# Altium schematic symbol library SCH_lib.SchLib: 56 symbols
Pins are listed as number, name and electrical type; pins without a type are passive.

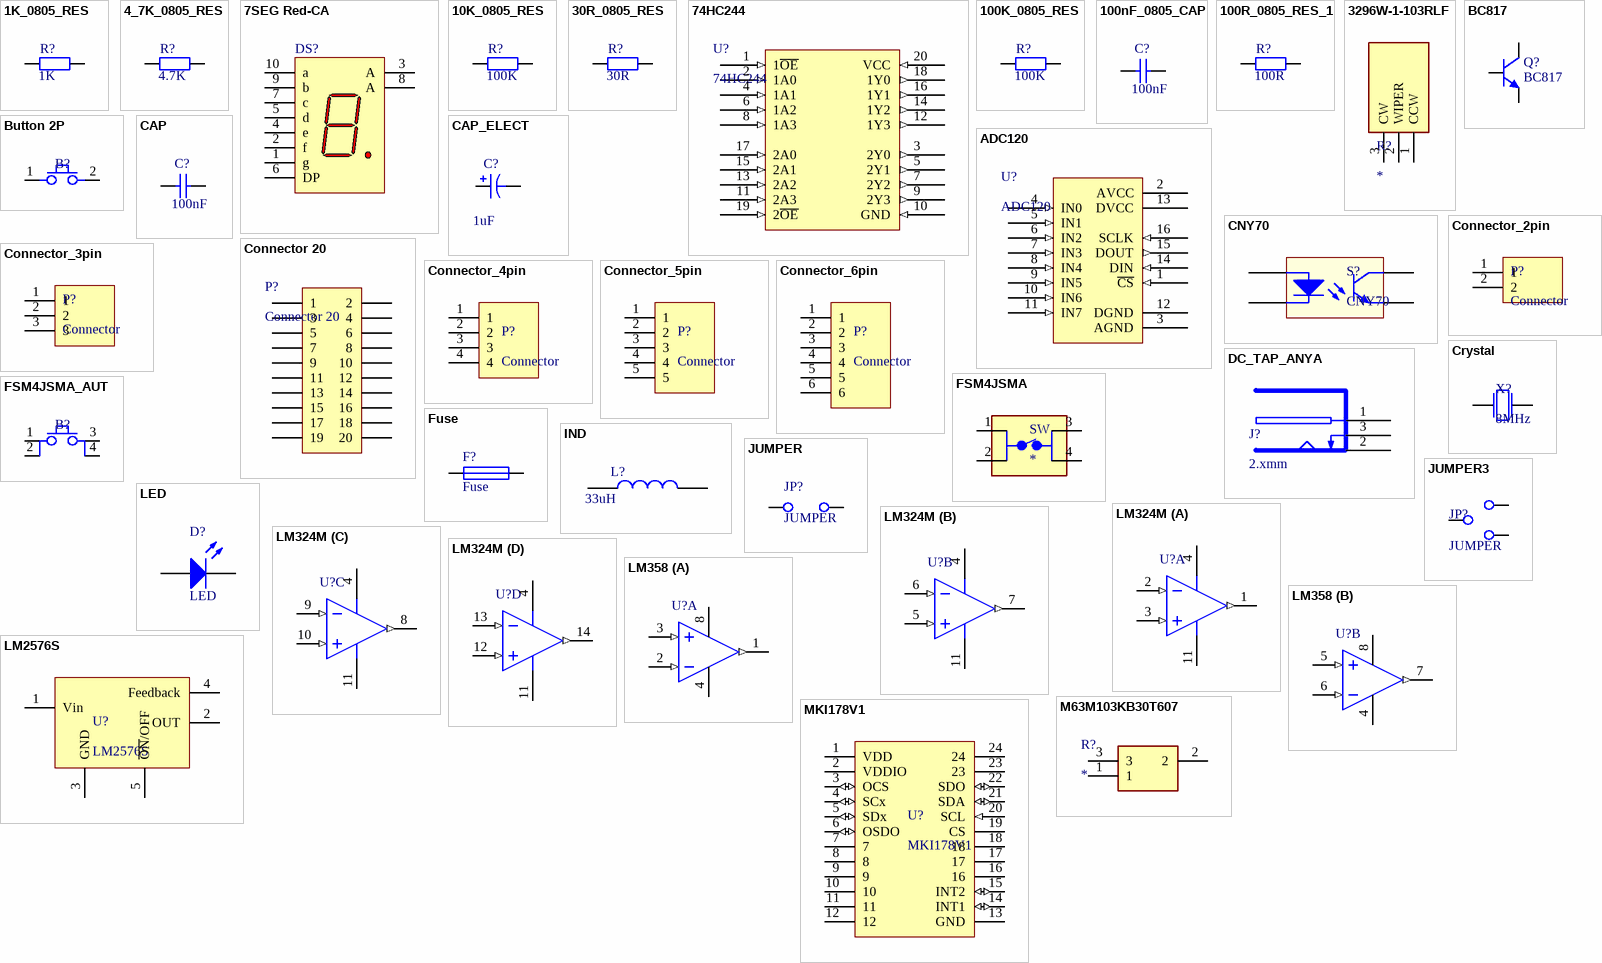
[diagram p0: symbols 1K_0805_RES to MKI178V1]

## 1K_0805_RES
designator R?, comment 1K
Resistor; Value: 1K
footprint FP_0805_RES (0805 ellenállás)
pins: 1, 2

## 4_7K_0805_RES
designator R?, comment 4.7K
Resistor; Value: 4.7K
footprint FP_0805_RES (0805 ellenállás)
pins: 1, 2

## 7SEG Red-CA
designator DS?
7-Segment Display: CA, RH DP; MinimumIntensity: 360 ucd; Note: IF = 5 mA; Colour: High Efficiency Red (HER); Note: Pins 1 and 6 are redundant Anodes.; Published: 8-Jun-2000; LatestRevisionDate: 17-Dec-2003; LatestRevisionNote: Schematic revised, PCB Footprint replaced.; DatasheetVersion: 19-Feb-2002; PackageVersion: 11-Feb-2002; PackageReference: A; Publisher: Altium Limited; PackageDescription: LED, 7-Segment Display, 7.62 mm, RHD; 10 Leads; Row Space 5.08 mm; Pitch 2.54 mm; ComponentLink1Description: Manufacturer Link; ComponentLink1URL: http://www.agilent.com/
footprint FP_7SEG (LED, 7-Segment Display, 7.62 mm, RHD; 10 Leads; Row Space 5.08 mm; Pitch 2.54 mm)
pins: 1 g "Cathode", 2 f "Cathode", 3 A "Anode", 4 e "Cathode", 5 d "Cathode", 6 DP "Cathode", 7 c "Cathode", 8 A "Anode", 9 b "Cathode", 10 a "Cathode"

## 10K_0805_RES
designator R?, comment 100K
Resistor; Value: 100K
footprint FP_0805_RES (0805 ellenállás)
pins: 1, 2

## 30R_0805_RES
designator R?, comment 30R
Resistor; Value: 30R
footprint FP_0805_RES (0805 ellenállás)
pins: 1, 2

## 74HC244
designator U?
Supplier: *; Reference: *; Name: *
footprint TSOP65P640X110-20N (TSOP, 20-Leads, Body 6,50x4,40mm, Pitch 0,65mm, IPC Medium Density)
pins: 1 1~{OE} (in), 2 1A0 (in), 3 2Y0 (out), 4 1A1 (in), 5 2Y1 (out), 6 1A2 (in), 7 2Y2 (out), 8 1A3 (in), 9 2Y3 (out), 10 GND (in), 11 2A3 (in), 12 1Y3 (out), 13 2A2 (in), 14 1Y2 (out), 15 2A1 (in), 16 1Y1 (out), 17 2A0 (in), 18 1Y0 (out), 19 2~{OE} (in), 20 VCC (in)

## 100K_0805_RES
designator R?, comment 100K
Resistor; Value: 100K
footprint FP_0805_RES (0805 ellenállás)
pins: 1, 2

## 100nF_0805_CAP
designator C?, comment 100nF
Capacitor; Value: 100nF
footprint FP_0805_CAP_085 (0805 kapacitás YAGEO 0.85mm magas)
pins: 1, 2

## 100R_0805_RES_1
designator R?, comment 100R
Resistor; Value: 100R
footprint FP_0805_RES (0805 ellenállás)
pins: 1, 2

## 3296W-1-103RLF
designator R?
Resistor; Manufacturer_Name: Bourns; Manufacturer_Part_Number: 3296W-1-103RLF; Datasheet Link: https://www.bourns.com/pdfs/3296.pdf; Mouser Part Number: 652-3296W-1-103RLF; Mouser Price/Stock: https://www.mouser.co.uk/ProductDetail/Bourns/3296W-1-103RLF?qs=2bTIwLLrckTSiNyA4dRdUg%3D%3D; Arrow Part Number: 3296W-1-103RLF; Arrow Price/Stock: https://www.arrow.com/en/products/3296w-1-103rlf/bourns?region=nac
footprint 3296W-1-103R
pins: 1 CCW, 2 WIPER, 3 CW

## ADC120
designator U?
Supplier: *; Reference: *; Name: *
footprint TSOP65P640X120-16N (TSOP, 16-Leads, Body 5,00x4,40mm, Pitch 0,65mm, IPC Medium Density)
pins: 1 ~{CS} (in), 2 AVCC (power), 3 AGND (power), 4 IN0 (in), 5 IN1 (in), 6 IN2 (in), 7 IN3 (in), 8 IN4 (in), 9 IN5 (in), 10 IN6 (in), 11 IN7 (in), 12 DGND (power), 13 DVCC (power), 14 DIN (in), 15 DOUT (out), 16 SCLK (in)

## BC817
designator Q?
NPN General-purpose Transistor; ComponentLink1Description: Manufacturer Link; ComponentLink1URL: http://www.semiconductors.philips.com/; ComponentLink2Description: Datasheet; ComponentLink2URL: http://www.semiconductors.philips.com/acrobat/datasheets/BC817_BC817W_BC337_5.pdf
footprint FP_SOT23-3 (SOT23-3 tok)
pins: 1 B, 2 E, 3 C

## Button 2P
designator B?, comment Button  (value not drawn)
Push button
footprint FP_BTN_SMD_3x6 (TACT 3x 6 2P)
pins: 1, 2

## CAP
designator C?, comment 100nF
Capacitor; Value: 100nF
footprint FP_0402_CAP_050 (0.5mm magas 0402 kapacitás)
footprint FP_0603_CAP_080 (0.8mm magas 0603 kapacitás)
footprint FP_0805_CAP_085 (0805 kapacitás YAGEO 0.85mm magas)
footprint FP_1206_CAP_125 (1206 kapacitás 1.25 mm)
pins: 1, 2

## CAP_ELECT
designator C?, comment 1uF
Polarized Capacitor; Value: 1uF
footprint FP_3528 (3528 TANTÁL SMD "B"-TOK)
footprint FP_6032
footprint FP_7343
footprint FP_CAP_ELKO_6,3X6,3 (680 uF/SMD-NIC 47 uF/SMD-NIC ELKO 16 V 105°C 20 % KIS IMPEDANCIÁS SMD O6,3x6,3mm)
footprint FP_CAP_ELKO_12,5X14 (680 uF/SMD-NIC ELKO 35 V 105°C 20 % KIS IMPEDANCIÁS SMD O12.5x14mm)
pins: N, P
1 alternate drawing of the same symbol

## CNY70
designator S?
Reflective Optical Sensor
footprint CNY70; pin to pad 1>A 2>K 3>C 4>E
pins: 1 A, 2 K, 3 C, 4 E

## Connector 20
designator P?
Ribbon cable connector; Reference: *; Supplier: *; Name: *
footprint CONNECTOR-20P (Right angle ribbon cable connector)
pins: 1, 2, 3, 4, 5, 6, 7, 8, 9, 10, 11, 12, 13, 14, 15, 16, 17, 18, 19, 20

## Connector_2pin
designator P?, comment Connector
2pin connector
footprint FP_CONN2_TAP_254MM (álló két pólusú tápcsatlakozó 2.54mm)
footprint FP_CONN2_TAP_254MM_90 (fekvő két pólusú tápcsatlakozó 2.54mm)
footprint FP_CONN2_SORK_3.81MM (SORKAPOCS 2 P RM3.81)
footprint FP_CONN2_2MM_90 (fekvő 2 pólusú csatlakozó 2mm)
footprint FP_CONN2_2MM_180 (álló 2 pólusú csatlakozó 2mm)
footprint FP_CONN2_TUSKE_254MM (2×1 tüskesor)
pins: 1, 2

## Connector_3pin
designator P?, comment Connector
3pin connector
footprint FP_CONN3_TAP_254MM_90 (fekvő három pólusú tápcsatlakozó 2.54mm)
footprint FP_CONN3_TAP_254MM (álló három pólusú tápcsatlakozó 2.54mm)
footprint FP_CONN3_2MM_90 (fekvő 3 pólusú csatlakozó 2mm)
footprint FP_CONN3_TUSKE_254MM (3×1 tüskesor)
pins: 1, 2, 3

## Connector_4pin
designator P?, comment Connector
4pin Connector
footprint FP_CONN4_TAP_254MM_90 (fekvő két pólusú tápcsatlakozó 2.54mm)
footprint FP_CONN4_TAP_254MM (álló két pólusú tápcsatlakozó 2.54mm)
footprint FP_CONN4_2MM_90 (fekvő 6 pólusú csatlakozó 2mm)
footprint FP_CONN4_2MM_180 (álló 4 pólusú csatlakozó 2mm)
pins: 1, 2, 3, 4

## Connector_5pin
designator P?, comment Connector
5pin Connector
footprint FP_CONN5_TAP_254MM_90 (fekvő öt pólusú tápcsatlakozó 2.54mm)
footprint FP_CONN5_TAP_254MM (álló öt pólusú tápcsatlakozó 2.54mm)
footprint FP_CONN5_2MM_90 (fekvő 5 pólusú csatlakozó 2mm)
pins: 1, 2, 3, 4, 5

## Connector_6pin
designator P?, comment Connector
6pin connector
footprint FP_CONN6_TAP_254MM_90 (fekvő hat pólusú tápcsatlakozó 2.54mm)
footprint FP_CONN6_TAP_254MM (álló hat pólusú tápcsatlakozó 2.54mm)
footprint FP_CONN6_2MM_90 (fekvő 6 pólusú csatlakozó 2mm)
footprint FP_CONN6_2MM_180 (álló 6 pólusú csatlakozó 2mm)
pins: 1, 2, 3, 4, 5, 6

## Crystal
designator X?, comment 8MHz
Quarz Crystal; Value: 8MHz
footprint FP_CRYSTAL_HC49_SMD (HC49/SMD)
footprint FP_CRYSTAL_HC49 (HC49)
pins: 1, 2

## DC_TAP_ANYA
designator J?, comment 2.xmm
2.xmm DC HEBA25 TÁPFESZÜLTSÉG ALJZAT ZÁRT, NYÁKBA 90°; Name: TÁP DC ANYA 5.5/2.1/9.5mm DCS-5521-5; Supplier: Lomex; Reference: 43-07-67
footprint FP_DC_TAP_ANYA (DC HEBA25 TÁPFESZÜLTSÉG ALJZAT ZÁRT, NYÁKBA 90°)
pins: 1 PIN (power), 2 SLEEVE (power), 3 BREAK (power)

## FSM4JSMA
designator SW
Tactile Switch SPST-NO Top Actuated Surface Mount; Contact_Current_Rating: 50 mA; MP: FSM4JSMA; Configuration_Pole-Throw: Single Pole - Single Throw; MF: TE Connectivity; SnapEDA_Link: https://www.snapeda.com/parts/FSM4JSMA/TE%20Connectivity%20ALCOSWITCH%20Switches/view-part/543632/?ref=snap; Availability: Unavailable; TE_purchase_URL: https://www.te.com/usa-en/product-4-1437565-1.html?te_bu=Cor&te_type=disp&te_campaign=seda_glo_cor-seda-global-disp-prtnr-fy19-seda-model-bom-cta_sma-317_1&elqCampaignId=32493; EU_RoHS_Compliance: Compliant; Price: None; Value: *; Package: None
footprint FSM4JSMA
pins: 1, 2, 3, 4

## FSM4JSMA_AUT
designator B?, comment Button  (value not drawn)
Push button
footprint FSM4JSMA_AUT (SMD Push Button 6x6mm)
pins: 1, 2, 3, 4

## Fuse
designator F?
footprint FP_MULTIFUSE (POLYFUSE SMD 1812)
pins: 1, 2

## IND
designator L?, comment 33uH
Inductor; Value: 33uH
footprint FP_IND_MURATA3131 (Murata Chip Inductor LQH88P Series (3131 Size))
footprint FP_0805_IND (0805 power inductor)
pins: 1, 2

## JUMPER
designator JP?
Jumper Wire
footprint FP_CONN2_TUSKE_254MM (2×1 tüskesor)
pins: 1 C1, 2 C2

## JUMPER3
designator JP?, comment JUMPER
Jumper Wire
footprint FP_CONN3_TUSKE_254MM (3×1 tüskesor)
pins: 1 C1, 2 C2, 3 C3

## LED
designator D?
Typical RED GaAs LED
footprint FP_LED_TH_GREEN (5mm átmérőjű furatszerelt zöld LED); pin to pad 1>A 2>K
footprint FP_LED_TH_RED (5mm átmérőjű furatszerelt piros LED); pin to pad 1>A 2>K
footprint FP_0805_LED_RED (0805 méretű piros LED); pin to pad 1>A 2>K
footprint FP_0805_LED_GREEN (0805 méretű zöld LED); pin to pad 1>A 2>K
pins: 1 A, 2 K

## LM324M
designator U?
Low Power Quad Operational Amplifier, 14-pin Narrow SOIC; Code_JEDEC: MS-012AB; Code_IPC: SOIC127P600-14; ComponentLink1Description: LM324 Datasheet; ComponentLink1URL: http://www.national.com/ds/LM/LM324.pdf; ComponentLink2Description: LM324 Web Page; ComponentLink2URL: http://www.national.com/pf/LM/LM324.html; ComponentLink3Description: M14A Package Page; ComponentLink3URL: http://www.national.com/packaging/folders/m14a.html
footprint FP_SOIC14 (SOIC-14 egyesek szerint narrow, RET szerint normál)
pins on every part: 4 V+ (power), 11 GND (power)
part A pins: 1 OUT1 (out), 2 IN1- (in), 3 IN1+ (in)
part B pins: 5 IN2+ (in), 6 IN2- (in), 7 OUT2 (out)
part C pins: 8 OUT3 (out), 9 IN3- (in), 10 IN3+ (in)
part D pins: 12 IN4+ (in), 13 IN4- (in), 14 OUT4 (out)

## LM358
designator U?
Low Power Quad Operational Amplifier, 14-pin Narrow SOIC; Code_JEDEC: MS-012AB; Code_IPC: SOIC127P600-14; ComponentLink1Description: LM324 Datasheet; ComponentLink1URL: http://www.national.com/ds/LM/LM324.pdf; ComponentLink2Description: LM324 Web Page; ComponentLink2URL: http://www.national.com/pf/LM/LM324.html; ComponentLink3Description: M14A Package Page; ComponentLink3URL: http://www.national.com/packaging/folders/m14a.html
footprint SOIC127P600X175-8M (SOIC, 8-Leads, Body 4,90x3,90mm, Pitch 1,27mm, IPC Low Density)
pins on every part: 4 GND (power), 8 V+ (power)
part A pins: 1 OUT1 (out), 2 IN1- (in), 3 IN1+ (in)
part B pins: 5 IN2+ (in), 6 IN2- (in), 7 OUT2 (out)

## LM2576S
designator U?
3A Step-Down Voltage Regulator
footprint FP_TO-263-5 (TO-263-5 footprint)
pins: 1 Vin (power), 2 OUT (power), 3 GND (power), 4 Feedback (power), 5 ~{ON}/OFF (power)

## M63M103KB30T607
designator R?
Resistor; Manufacturer_Name: Vishay; Manufacturer_Part_Number: M63M103KB30T607; Mouser Part Number: 594-M63M103KB30T607; Mouser Price/Stock: https://www.mouser.co.uk/ProductDetail/Vishay-Spectrol/M63M103KB30T607?qs=iBCKGqwqm%252BjvzERxw77Lvg%3D%3D; Arrow Part Number: M63M103KB30T607; Arrow Price/Stock: https://www.arrow.com/en/products/m63m103kb30t607/vishay?region=nac
footprint M63M103KB30T607
pins: 1, 2, 3

## MKI178V1
designator U?
LSM6DS3 inertial module adapter; Name: MKI160V1 LSM6DS3 inertial module adapter; Reference: 511-STEVAL-MKI160V1; Supplier: Mouser
footprint MKI178V1
pins: 1 VDD (power), 2 VDDIO (power), 3 OCS (io) "Aux SPI 3-wire", 4 SCx (io) "Aux Clock", 5 SDx (io) "Aux Data", 6 OSDO (io), 7, 8, 9, 10, 11, 12, 13 GND (power), 14 INT1 (io) "Programmable interrupt", 15 INT2 (io) "Programmable interrupt", 16, 17, 18, 19 CS, 20 SCL (in), 21 SDA (io), 22 SDO (io), 23, 24

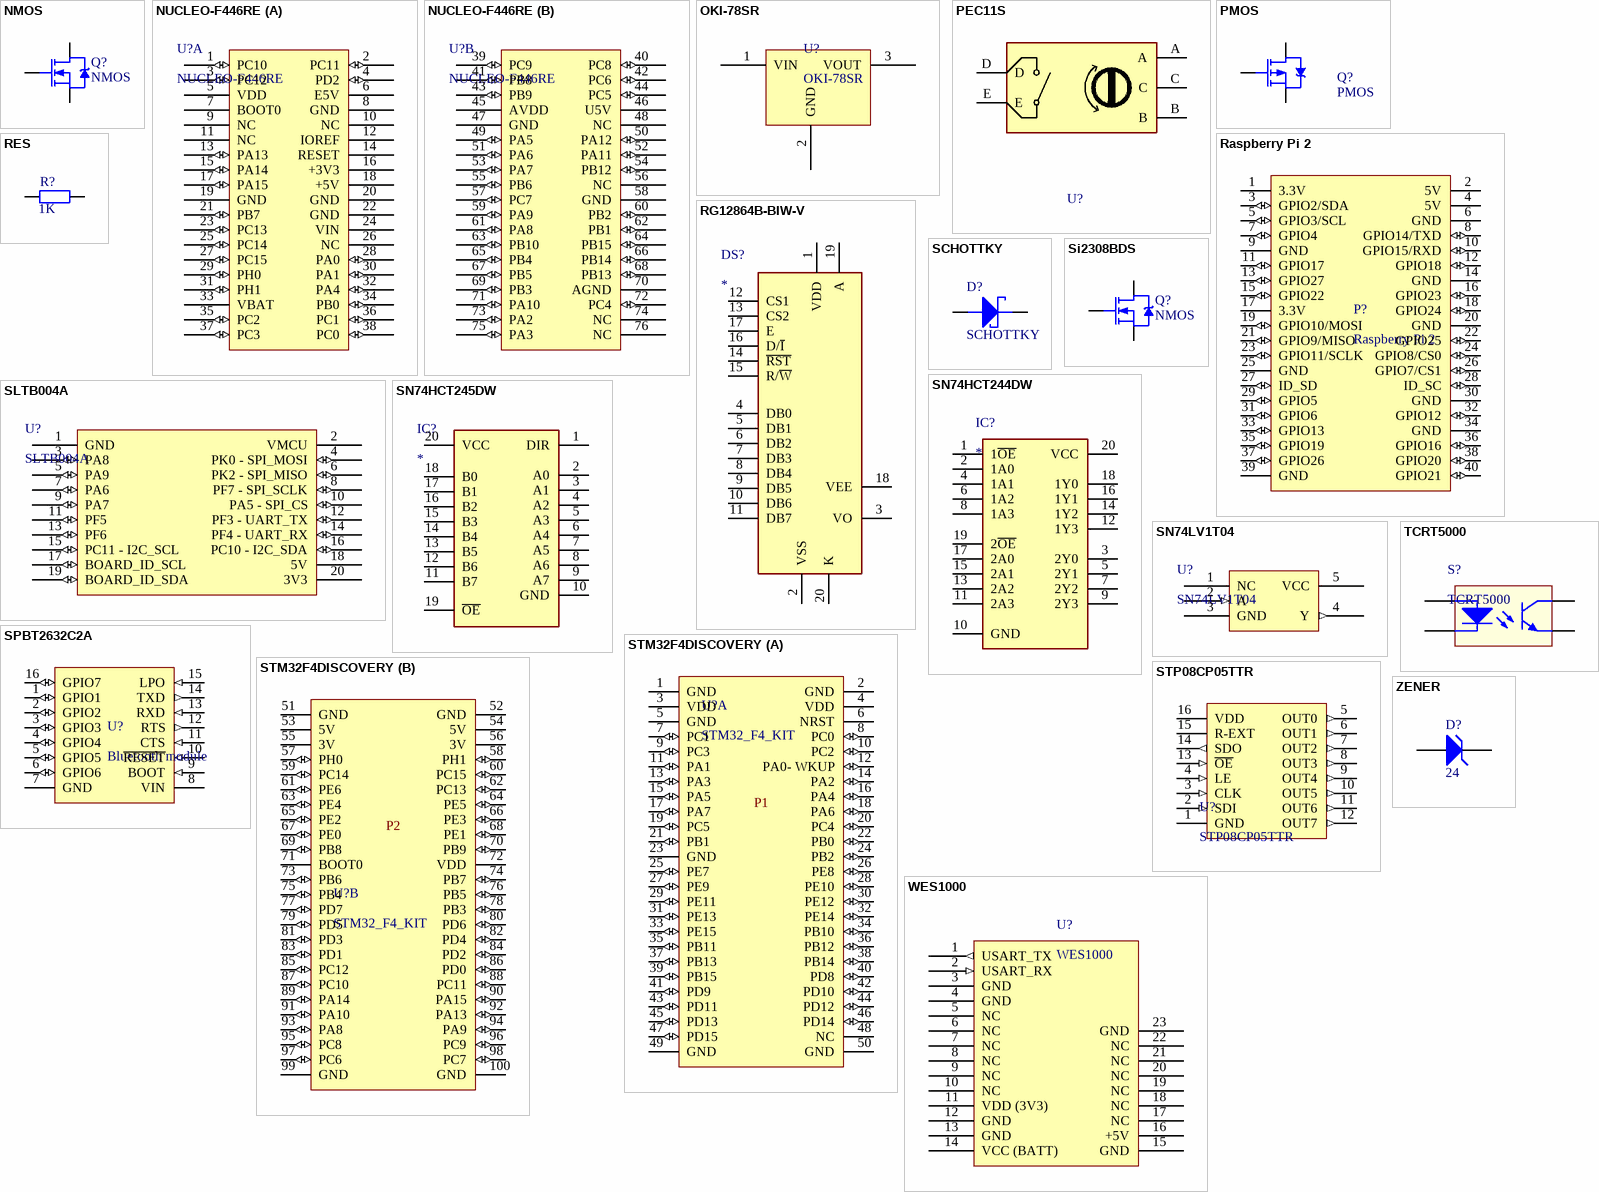
[diagram p1: symbols NMOS to ZENER]

## NMOS
designator Q?
NXP - BSP030,115 - MOSFET, N CH, 30V, 10A, SOT223
footprint FP_SOT223 (SOT223 package, 3 leads)
footprint FP_SOT23-3 (SOT23-3 tok); pin to pad 2>3 3>2
footprint FP_DPAK-TO252 (D-PAK Package)
pins: 1 G, 2 D, 3 S

## NUCLEO-F446RE
designator U?
Reference: NUCLEO; Name: Nucleo F446RE; Supplier: Tanszék
footprint FP_NUCLEO-64
part A pins: 1 PC10 (io), 2 PC11 (io), 3 PC12 (io), 4 PD2 (io), 5 VDD (power), 6 E5V (power), 7 BOOT0, 8 GND, 9 NC, 10 NC, 11 NC, 12 IOREF, 13 PA13 (io), 14 RESET, 15 PA14 (io), 16 +3V3 (power), 17 PA15 (io), 18 +5V (power), 19 GND, 20 GND, 21 PB7 (io), 22 GND, 23 PC13 (io), 24 VIN (power), 25 PC14 (io), 26 NC, 27 PC15 (io), 28 PA0 (io), 29 PH0 (io), 30 PA1 (io), 31 PH1 (io), 32 PA4 (io), 33 VBAT (power), 34 PB0 (io), 35 PC2 (io), 36 PC1 (io), 37 PC3 (io), 38 PC0 (io)
part B pins: 39 PC9 (io), 40 PC8 (io), 41 PB8 (io), 42 PC6 (io), 43 PB9 (io), 44 PC5 (io), 45 AVDD (power), 46 U5V (power), 47 GND, 48 NC, 49 PA5 (io), 50 PA12 (io), 51 PA6 (io), 52 PA11 (io), 53 PA7 (io), 54 PB12 (io), 55 PB6 (io), 56 NC, 57 PC7 (io), 58 GND, 59 PA9 (io), 60 PB2 (io), 61 PA8 (io), 62 PB1 (io), 63 PB10 (io), 64 PB15 (io), 65 PB4 (io), 66 PB14 (io), 67 PB5 (io), 68 PB13 (io), 69 PB3 (io), 70 AGND, 71 PA10 (io), 72 PC4 (io), 73 PA2 (io), 74 NC, 75 PA3 (io), 76 NC

## OKI-78SR
designator U?
Non Isolated POL DC/DC Converter; Name: OKI-78SR-5/1.5-W36-C; Supplier: Farnell
footprint FP_OKI78SR-VERTICAL (OKI regulator)
footprint FP_OKI78SR-HORIZONTAL (OKI regulator)
pins: 1 VIN (power), 2 GND (power), 3 VOUT (power)

## PEC11S
designator U?  (value not drawn)
PEC11S Rotary encoder
footprint FP_PEC11S
pins: A, B, C, D, E

## PMOS
designator Q?
MOSFET, P CH
footprint FP_DPAK-TO252 (D-PAK Package)
footprint FP_SOT23-3 (SOT23-3 tok); pin to pad 2>3 3>2
pins: 1 G, 2 D, 3 S

## Raspberry Pi 2
designator P?
footprint FP_RASPBERRYPI2 (Raspberry Pi 2)
pins: 1 3.3V (power), 2 5V (power), 3 GPIO2/SDA (io), 4 5V (power), 5 GPIO3/SCL (io), 6 GND (power), 7 GPIO4 (io), 8 GPIO14/TXD (io), 9 GND (power), 10 GPIO15/RXD (io), 11 GPIO17 (io), 12 GPIO18 (io), 13 GPIO27 (io), 14 GND (power), 15 GPIO22 (io), 16 GPIO23 (io), 17 3.3V (power), 18 GPIO24 (io), 19 GPIO10/MOSI (io), 20 GND (power), 21 GPIO9/MISO (io), 22 GPIO25 (io), 23 GPIO11/SCLK (io), 24 GPIO8/CS0 (io), 25 GND (power), 26 GPIO7/CS1 (io), 27 ID_SD (io), 28 ID_SC (io), 29 GPIO5 (io), 30 GND (power), 31 GPIO6 (io), 32 GPIO12 (io), 33 GPIO13 (io), 34 GND (power), 35 GPIO19 (io), 36 GPIO16 (io), 37 GPIO26 (io), 38 GPIO20 (io), 39 GND (power), 40 GPIO21 (io)

## RES
designator R?, comment 1K
Resistor; Value: 1K
footprint FP_0603_RES (0603 ellenállás)
footprint FP_0805_RES (0805 ellenállás)
footprint FP_1206_RES (1206 ellenállás)
pins: 1, 2

## RG12864B-BIW-V
designator DS?
Display; Manufacturer_Name: RAYSTAR; Manufacturer_Part_Number: RG12864B-GHW-V; Datasheet Link: https://www.tme.eu/Document/ad0edd8197c217e1346010bf2253878c/RG12864B-GHW-V.pdf; Height: 5.9mm
footprint RG12864B-BIW-V_AUT
pins: 1 VDD, 2 VSS, 3 VO, 4 DB0, 5 DB1, 6 DB2, 7 DB3, 8 DB4, 9 DB5, 10 DB6, 11 DB7, 12 CS1, 13 CS2, 14 ~{RST}, 15 R/~{W}, 16 D/~{I}, 17 E, 18 VEE, 19 A, 20 K, MH1 hidden, MH2 hidden, MH3 hidden, MH4 hidden

## SCHOTTKY
designator D?
Schottky diode
footprint FP_SOD323-F (SOD323-F (SC-90))
footprint FP_SOD-123
footprint FP_SMB (DO214-AA tok (SMB))
footprint FP_SMA (SMA footprint)
pins: 1 ANODE, 2 CATHODE

## Si2308BDS
designator Q?, comment NMOS
Si2308BDS
footprint FP_SOT23-3 (SOT23-3 tok); pin to pad 2>3 3>2
pins: 1 G, 2 D, 3 S

## SLTB004A
designator U?
SiLabs Thunderboard Sense 2 module
footprint SLTB004A (Thunderboard Sense 2 module)
pins: 1 GND (power), 2 VMCU (power), 3 PA8 (io), 4 PK0 - SPI_MOSI (io), 5 PA9 (io), 6 PK2 - SPI_MISO (io), 7 PA6 (io), 8 PF7 - SPI_SCLK (io), 9 PA7 (io), 10 PA5 - SPI_CS (io), 11 PF5 (io), 12 PF3 - UART_TX (io), 13 PF6 (io), 14 PF4 - UART_RX (io), 15 PC11 - I2C_SCL (io), 16 PC10 - I2C_SDA (io), 17 BOARD_ID_SCL (io), 18 5V (power), 19 BOARD_ID_SDA (io), 20 3V3 (power)

## SN74HCT244DW
designator IC?
Integrated Circuit; Manufacturer_Name: Texas Instruments; Manufacturer_Part_Number: SN74HCT244DW; Datasheet Link: http://www.ti.com/lit/ds/symlink/sn74hct244.pdf; Height: 2.65mm; Mouser Part Number: 595-SN74HCT244DW; Mouser Price/Stock: https://www.mouser.co.uk/ProductDetail/Texas-Instruments/SN74HCT244DW?qs=8yeEWhuAOtPaf02S2l6zdA%3D%3D; Arrow Part Number: SN74HCT244DW; Arrow Price/Stock: https://www.arrow.com/en/products/sn74hct244dw/texas-instruments
footprint SN74HCT244DW
pins: 1 1~{OE}, 2 1A0, 3 2Y0, 4 1A1, 5 2Y1, 6 1A2, 7 2Y2, 8 1A3, 9 2Y3, 10 GND, 11 2A3, 12 1Y3, 13 2A2, 14 1Y2, 15 2A1, 16 1Y1, 17 2A0, 18 1Y0, 19 2~{OE}, 20 VCC

## SN74HCT245DW
designator IC?
Integrated Circuit; Manufacturer_Name: Texas Instruments; Manufacturer_Part_Number: SN74HCT245DW; Datasheet Link: http://www.ti.com/lit/ds/symlink/sn74hct245.pdf; Height: 2.65mm; Mouser Part Number: 595-SN74HCT245DW; Mouser Price/Stock: https://www.mouser.co.uk/ProductDetail/Texas-Instruments/SN74HCT245DW?qs=5h8QSfodyRguwsnqzMvAgw%3D%3D; Arrow Part Number: SN74HCT245DW; Arrow Price/Stock: https://www.arrow.com/en/products/sn74hct245dw/texas-instruments?region=nac
footprint SN74HCT245DW
pins: 1 DIR, 2 A0, 3 A1, 4 A2, 5 A3, 6 A4, 7 A5, 8 A6, 9 A7, 10 GND, 11 B7, 12 B6, 13 B5, 14 B4, 15 B3, 16 B2, 17 B1, 18 B0, 19 ~{OE}, 20 VCC

## SN74LV1T04
designator U?
Suplier: *; Reference: *; Name: *
footprint FP_SOT23-5 (SOT23, 5-Leads, Body 2.9x1.6mm, Pitch 0.95mm, Lead Span 2.8mm, IPC Medium Density)
pins: 1 NC, 2 A (in), 3 GND (power), 4 Y (out), 5 VCC (power)

## SPBT2632C2A
designator U?, comment Bluetooth module
Bluetooth technology class-2 module
footprint FP_SPBT2632C2A_BT_Module (Bluetooth technology class-2 module)
pins: 1 GPIO1 (io), 2 GPIO2 (io), 3 GPIO3 (io), 4 GPIO4 (io), 5 GPIO5 (io), 6 GPIO6 (io), 7 GND (power), 8 VIN (power), 9 BOOT (in), 10 ~{RESET} (in), 11 CTS (in), 12 RTS (out), 13 RXD (in), 14 TXD (out), 15 LPO (in), 16 GPIO7 (io)

## STM32F4DISCOVERY
designator U?, comment STM32_F4_KIT
STM32 F4 Discovery Evaluation Kit
footprint FP_STM32F4DISC (STM32 F4 Discovery evaluation board)
part A pins: 1 GND (power) "Ground", 2 GND (power) "Ground", 3 VDD (power) "Supply", 4 VDD (power) "Supply", 5 GND (power) "Ground", 6 NRST (hiz) "Reset signal", 7 PC1 (io) "ETH_MDC/ ADC123_IN11", 8 PC0 (io) "OTG_HS_ULPI_STP/ ADC123_IN10", 9 PC3 (io) "SPI2_MOSI/ I2S2_SD/ OTG_HS_ULPI_NXT/ ETH_MII_TX_CLK/ ADC123_IN13", 10 PC2 (io) "SPI2_MISO/ OTG_HS_ULPI_DIR/ TH_MII_TXD2/ I2S2ext_SD/ ADC123_IN12", 11 PA1 (io) "USART2_RTS/ USART4_RX/ ETH_RMII_REF_CLK/ ETH_MII_RX_CLK/ TIM5_CH2/ TIMM2_CH2/ ADC123_IN1", 12 PA0- WKUP (io) "USART2_CTS/ USART4_TX/ ETH_MII_CRS/ TIM2_CH1_ETR/ TIM5_CH1/ TIM8_ETR/ ADC123_IN0/ WKUP", 13 PA3 (io) "USART2_RX/ TIM5_CH4/ TIM9_CH2/ TIM2_CH4/ OTG_HS_ULPI_D0/ ETH_MII_COL/ ADC123_IN3", 14 PA2 (io) "USART2_TX/ TIM5_CH3/ TIM9_CH1/ TIM2_CH3/ ETH_MDIO/ ADC123_IN2", 15 PA5 (io) "SPI1_SCK/ OTG_HS_ULPI_CK/ TIM2_CH1_ETR/ TIM8_CHIN/ ADC12_IN5/ DAC2_OUT", 16 PA4 (io) "SPI1_NSS/ SPI3_NSS/ USART2_CK/ DCMI_HSYNC/ OTG_HS_SOF/ I2S3_WS/ ADC12_IN4/ DAC1_OUT", 17 PA7 (io) "SPI1_MOSI/ TIM8_CH1N/ TIM14_CH1TIM3_CH2/ ETH_MII_RX_DV/ TIM1_CH1N/ RMII_CRS_DV/ ADC12_IN7", 18 PA6 (io) "SPI1_MISO/ TIM8_BKIN/ TIM13_CH1/ DCMI_PIXCLK/ TIM3_CH1/ TIM1_BKIN/ ADC12_IN6", 19 PC5 (io) "ETH_RMII_RX_D1/ ETH_MII_RX_D1/ ADC12_IN15", 20 PC4 (io) "ETH_RMII_RX_D0/ ETH_MII_RX_D0/ ADC12_IN14", 21 PB1 (io) "TIM3_CH4/ TIM8_CH3N/ OTG_HS_ULPI_D2/ ETH_MII_RXD3/ OTG_HS_INTN/ TIM1_CH3N/ ADC12_IN9", 22 PB0 (io) "TIM3_CH3/ TIM8_CH2N/ OTG_HS_ULPI_D1/ ETH_MII_RXD2/ TIM1_CH2N/ ADC12_IN8", 23 GND (power) "Ground", 24 PB2 (io), 25 PE7 (io) "FSMC_D4/ TIM1_ETR", 26 PE8 (io) "FSMC_D5/ TIM1_CH1N", 27 PE9 (io) "FSMC_D6/ TIM1_CH1", 28 PE10 (io) "FSMC_D7/ TIM1_CH2N", 29 PE11 (io) "FSMC_D8/ TIM1_CH2", 30 PE12 (io) "FSMC_D9/ TIM1_CH3N", 31 PE13 (io) "FSMC_D10/ TIM1_CH3", 32 PE14 (io) "FSMC_D11/ TIM1_CH4", 33 PE15 (io) "FSMC_D12/ TIM1_BKIN", 34 PB10 (io) "SPI2_SCK/ I2S2_CK/ I2C2_SCL/ USART3_TX/ OTG_HS_ULPI_D3/ ETH_MII_RX_ER/ OTG_HS_SCL/ TIM2_CH3", 35 PB11 (io) "I2C2_SDA/ USART3_RX/ OTG_HS_ULPI_D4/ ETH_RMII_TX_EN/ ETH_MII_TX_EN/ OTG_HS_SDA/ TIM2_CH4", 36 PB12 (io) "SPI2_NSS/ I2S2_WS/ I2C2_SMBA/ USART3_CK/ TIM1_BKIN/ CAN2_RX/ OTG_HS_ULPI_D5/ ETH_RMII_TXD0/ ETH_MII_TXD0/ OTG_HS_ID", 37 PB13 (io) "SPI2_SCK/ I2S2_CK/ USART3_CTS/ TIM1_CH1N/ CAN2_TX/ OTG_HS_ULPI_D6/ ETH_RMII_TXD1/ ETH_MII_TXD1/ OTG_HS_VBUS", 38 PB14 (io) "SPI2_MISO/ TIM1_CH2N/ TIM12_CH1/ OTG_HS_DMUSART3_ RTS/ TIM8_CH2N/ I2S2ext_SD", 39 PB15 (io) "SPI2_MOSI/ I2S2_SD/ TIM1_CH3N/ TIM8_CH3N/ TIM12_CH2/ OTG_HS_DP", 40 PD8 (io) "FSMC_D13/ USART3_TX", 41 PD9 (io) "FSMC_D14/ USART3_RX", 42 PD10 (io) "FSMC_D15/ USART3_CK", 43 PD11 (io) "FSMC_A16/ USART3_CTS", 44 PD12 (io) "FSMC_A17/ TIM4_CH1/ USART3_RTS", 45 PD13 (io) "FSMC_A18/ TIM4_CH2", 46 PD14 (io) "FSMC_D0/ TIM4_CH3", 47 PD15 (io) "FSMC_D1/ TIM4_CH4", 48 NC "Not connected", 49 GND (power) "Ground", 50 GND (power) "Ground"
part B pins: 51 GND (power) "Ground", 52 GND (power) "Ground", 53 5V (power) "USB 5V", 54 5V (power) "USB 5V", 55 3V (power) "3V from board", 56 3V (power) "3V from board", 57 PH0 (io) "OSC_IN", 58 PH1 (io) "OSC_OUT", 59 PC14 (io) "OSC32_IN", 60 PC15 (io) "OSC32_OUT", 61 PE6 (io) "TRACED3/ FSMC_A22/ TIM9_CH2/ DCMI_D7", 62 PC13 (io) "RTC_AF1", 63 PE4 (io) "TRACED1/ FSMC_A20/ DCMI_D4", 64 PE5 (io) "TRACED2/ FSMC_A21/ TIM9_CH1/ DCMI_D6", 65 PE2 (io) "TRACECLK/ FSMC_A23/ ETH_MII_TXD3", 66 PE3 (io) "TRACED0/ FSMC_A19", 67 PE0 (io) "TIM4_ETR/ FSMC_NBL0/ DCMI_D2", 68 PE1 (io) "FSMC_NBL1/ DCMI_D3", 69 PB8 (io) "TIM4_CH3/ SDIO_D4/ TIM10_CH1/ DCMI_D6/ OTG_FS_SCL/ ETH_MII_TXD3/ I2C1_SCL/ CAN1_RX", 70 PB9 (io) "SPI2_NSS/ I2S2_WS/ TIM4_CH4/ TIM11_CH1/ OTG_FS_SDA/ SDIO_D5/ DCMI_D7/ I2C1_SDA/ CAN1_TX", 71 BOOT0 (hiz) "VPP", 72 VDD (power) "Supply", 73 PB6 (io) "I2C1_SCL/ TIM4_CH1/ CAN2_TX/ OTG_FS_INTN/ DCMI_D5/ USART1_TX", 74 PB7 (io) "I2C1_SDA/ FSMC_NL/ DCMI_VSYNC/ USART1_RX/ TIM4_CH2", 75 PB4 (io) "NJTRST/ SPI3_MISO/ TIM3_CH1/ SPI1_MISO/ I2S3ext_SD", 76 PB5 (io) "I2C1_SMBA/ CAN2_RX/ OTG_HS_ULPI_D7/ ETH_PPS_OUT/ TIM3_CH2/ SPI1_MOSI/ SPI3_MOSI/ DCMI_D10/ I2S3_SD", 77 PD7 (io) "USART2_CK/ FSMC_NE1/ FSMC_NCE2", 78 PB3 (io) "JTDO/ TRACESWO/ SPI3_SCK/ I2S3_CK/ TIM2_CH2/ SPI1_SCK", 79 PD5 (io) "FSMC_NWE/ USART2_TX", 80 PD6 (io) "FSMC_NWAIT/ USART2_RX", 81 PD3 (io) "FSMC_CLK/ USART2_CTS", 82 PD4 (io) "FSMC_NOE/ USART2_RTS", 83 PD1 (io) "FSMC_D3/ CAN1_TX", 84 PD2 (io) "TIM3_ETR/ UART5_RXSDIO_CMD/ DCMI_D11", 85 PC12 (io) "UART5_TX/ SDIO_CK/ DCMI_D9/ SPI3_MOSI/ I2S3_SD/ USART3_CK", 86 PD0 (io) "FSMC_D2/ CAN1_RX", 87 PC10 (io) "SPI3_SCK/ I2S3_CK/ UART4_TX/ SDIO_D2/ DCMI_D8/ USART3_TX", 88 PC11 (io) "UART4_RX/ SPI3_MISO/ SDIO_D3/ DCMI_D4/ USART3_RX/ I2S3ext_SD", 89 PA14 (io) "JTCK-SWCLK", 90 PA15 (io) "JTDI/ SPI3_NSS/ I2S3_WS/ TIM2_CH1_ETR/ SPI1_NSS", 91 PA10 (io) "USART1_RX/ TIM1_CH3/ OTG_FS_ID/ DCMI_D1", 92 PA13 (io) "JTMS-SWDIO", 93 PA8 (io) "MCO1/ USART1_CK/ TIM1_CH1/ I2C3_SCL/ OTG_FS_SOF", 94 PA9 (io) "USART1_TX/ TIM1_CH2/ I2C3_SMBA/ DCMI_D0/ OTG_FS_VBUS", 95 PC8 (io) "TIM8_CH3/ SDIO_D0/ TIM3_CH3/ USART6_CK/ DCMI_D2", 96 PC9 (io) "I2S_CKIN/ MCO2/ TIM8_CH4/ SDIO_D1/ I2C3_SDA/ DCMI_D3/ TIM3_CH4", 97 PC6 (io) "I2S2_MCK/ TIM8_CH1/ SDIO_D6/ USART6_TX/ DCMI_D0/ TIM3_CH1", 98 PC7 (io) "I2S3_MCK/ TIM8_CH2/ SDIO_D7/ USART6_RX/ DCMI_D1/ TIM3_CH2", 99 GND (power) "Ground", 100 GND (power) "Ground"
part A text: P1
part B text: P2

## STP08CP05TTR
designator U?
Low voltage, low current power 8-bit shift register
footprint TSOP65P640X120-16M (TSOP, 16-Leads, Body 5,00x4,40mm, Pitch 0,65mm, IPC Low Density)
pins: 1 GND, 2 SDI (in), 3 CLK (in), 4 LE (in), 5 OUT0 (out), 6 OUT1 (out), 7 OUT2 (out), 8 OUT3 (out), 9 OUT4 (out), 10 OUT5 (out), 11 OUT6 (out), 12 OUT7 (out), 13 ~{OE} (in), 14 SDO (out), 15 R-EXT, 16 VDD (power)

## TCRT5000
designator S?
Reflective Optical Sensor
footprint TCRT5000; pin to pad 1>A 2>Cath 3>Coll 4>E
pins: 1 A, 2 K, 3 C, 4 E

## WES1000
designator U?
SiLabs vezeték nélküli modul
footprint FP_WES1000
pins: 1 USART_TX (out), 2 USART_RX (in), 3 GND, 4 GND, 5 NC, 6 NC, 7 NC, 8 NC, 9 NC, 10 NC, 11 VDD (3V3), 12 GND, 13 GND, 14 VCC (BATT), 15 GND, 16 +5V, 17 NC, 18 NC, 19 NC, 20 NC, 21 NC, 22 NC, 23 GND

## ZENER
designator D?, comment 24
Zener Diode; U_Z: 24
footprint FP_SMA (SMA DO-214AC tok)
footprint FP_SMB (DO214-AA tok (SMB))
footprint FP_SOD-123
footprint FP_SOD323-F (SOD323-F (SC-90))
pins: 1 A, 2 K